# EAGLE library part MPU6050 (library CRD)
Acelerômetro e Giroscópio
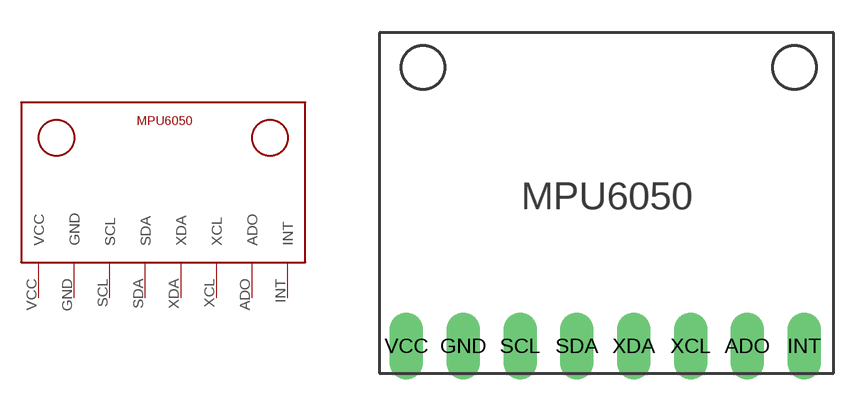
[diagram p3: symbol with the pads of MPU6050_FOOTPRINT; footprint MPU6050_FOOTPRINT]

Designator prefix -

## MPU6050V1  [MPU6050_FOOTPRINT]
ADO  ADO
GND  GND
INT  INT
SCL  SCL
SDA  SDA
VCC  VCC
XCL  XCL
XDA  XDA

## Footprint MPU6050_FOOTPRINT (pad centres in mm)
drill 1.016 long: ADO 6.686,-10.184; GND -6.314,-10.184; INT 9.286,-10.184; SCL -3.715,-10.184; SDA -1.115,-10.184; VCC -8.915,-10.184; XCL 4.085,-10.184; XDA 1.486,-10.184